# Altium schematic symbol library MS561101BA03-50.SchLib: 1 symbol
Pins are listed as number, name and electrical type; pins without a type are passive.

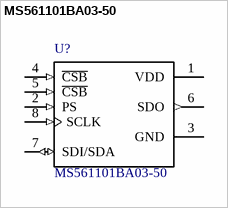
[diagram p0: symbol MS561101BA03-50]

## MS561101BA03-50
designator U?
Barometric Pressure Sensor; MF: TE Connectivity; Package: SMD-8 TE Connectivity; MP: MS561101BA03-50; Link: http://www.te.com/usa-en/product-MS561101BA03-50.html; EU_RoHS_Compliance: Compliant; Availability: Good; Price: 8.41 USD; SnapEDA_Link: https://www.snapeda.com/parts/MS561101BA03-50/TE%20Connectivity%20/%20DEUTSCH/view-part/?ref=snap; Value: *
footprint SON125P500X300X100-8N
pins: 1 VDD (power), 2 PS (in), 3 GND (power), 4 ~{CSB} (in), 5 ~{CSB} (in), 6 SDO (out), 7 SDI/SDA (io), 8 SCLK (in)